# Altium footprint library DDS1.PcbLib: 136 footprints (part 2 of 9)
Each footprint in its own frame and in the unit in brackets; x right, y up, seen from the top. Pads: shape width x height; smd on the part's side, far side on the other; paste and mask are expansions set on the pad; w line width, h text height; cw(c..) or ccw(c..) is an arc to the next point about the centre after c.
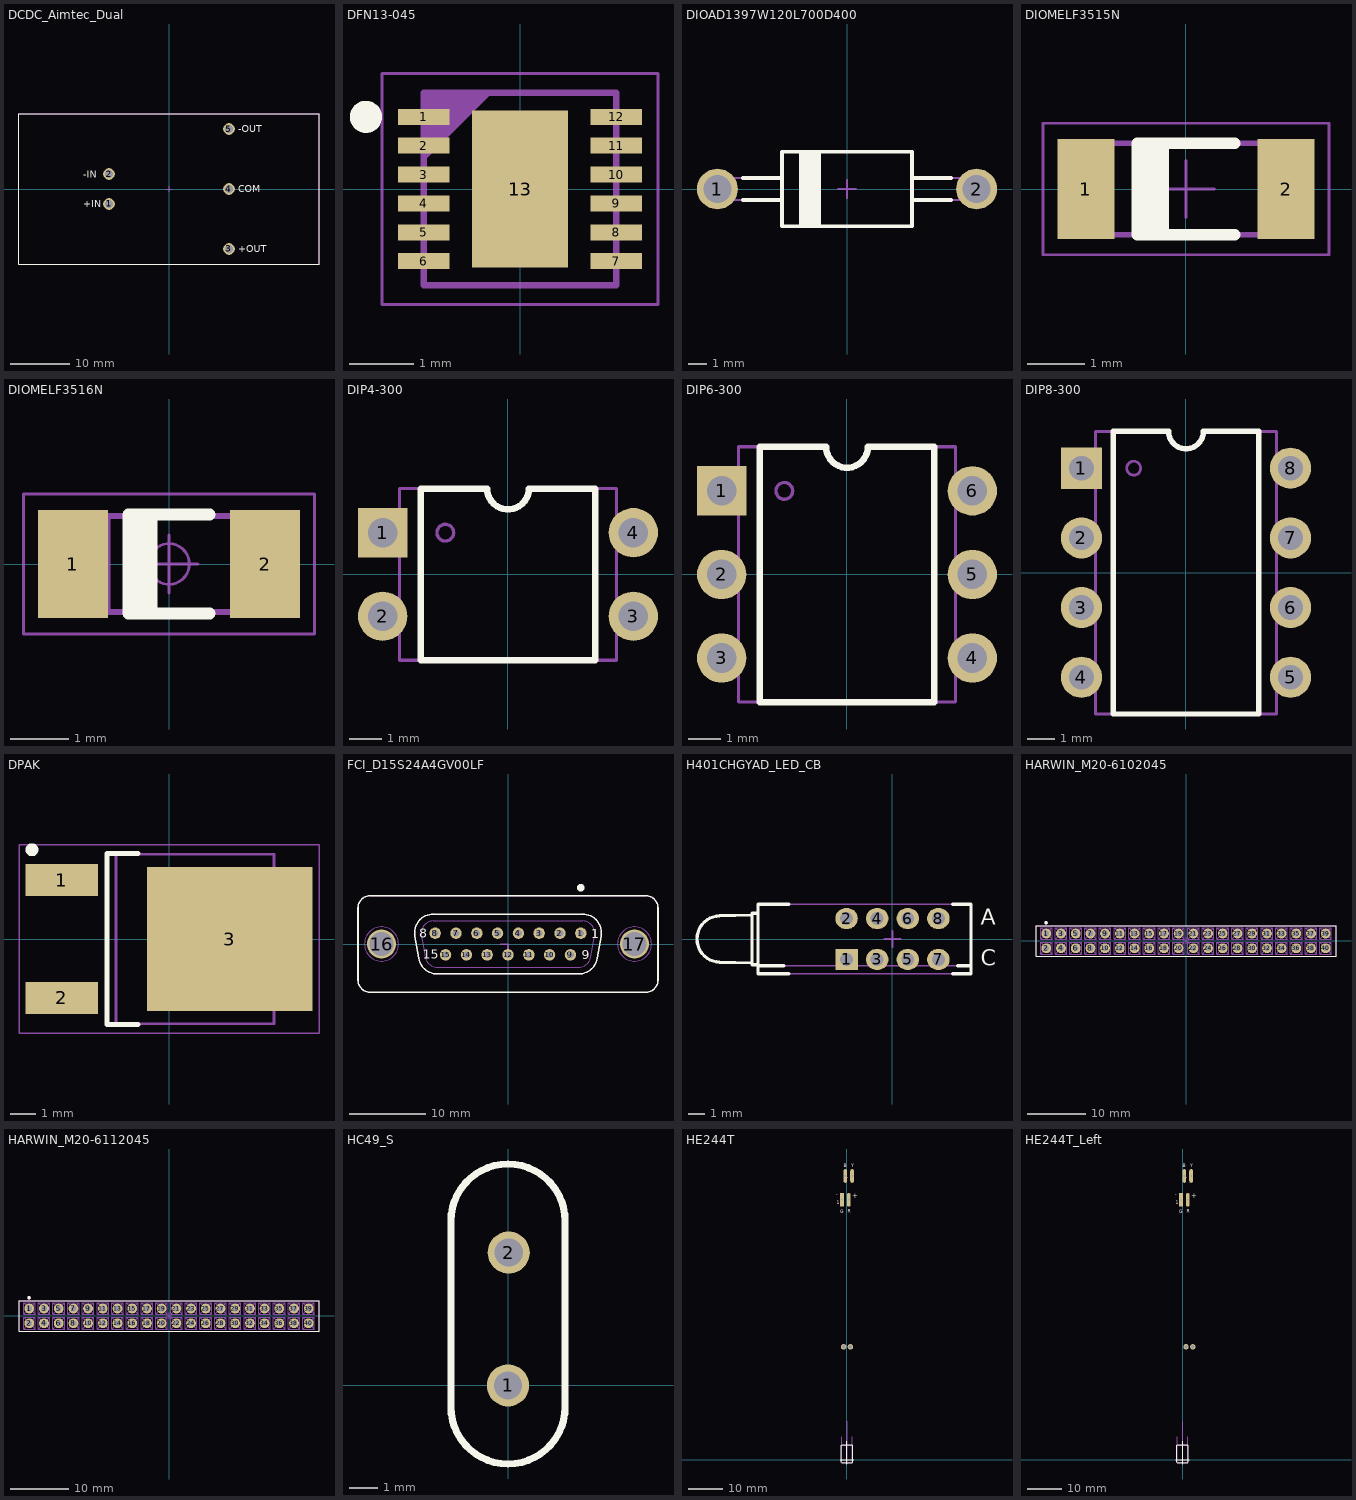
[diagram p1: the footprints below, top view; thin cyan lines are the x and y axes]

## DCDC_Aimtec_Dual [mm] "AEE 15W Series , Dual Output DCDC Converter, Body 50.8x25.4mm, Height 11.3mm"
height 11.3
pads (5):
  round 2 hole 1.3: 1(-10.16,-2.54) 2(-10.16,2.54) 3(10.16,-10.16) 4(10.16,0) 5(10.16,10.16)
Top Overlay:
  lines w0.2: -25.4,-12.7 -25.4,12.7 25.4,12.7 25.4,-12.7 -25.4,-12.7
  text "-IN" at -14.55,1.9 h1.2
  text "-OUT" at 11.71,9.645 h1.2
  text "+OUT" at 11.71,-10.675 h1.2
  text "+IN" at -14.55,-3.1 h1.2
  text "COM" at 11.71,-0.515 h1.2
Mechanical 8:
  lines w0.1: -10.66,-2.54 -10.16,-2.54 ; -10.66,2.54 -10.16,2.54 ; -10.16,-3.04 -10.16,-2.54 ; -10.16,-2.04 -10.16,-2.54 ; -10.16,2.04 -10.16,2.54 ; -10.16,3.04 -10.16,2.54 ; -9.66,-2.54 -10.16,-2.54 ; -9.66,2.54 -10.16,2.54 ; -0.5,0 0,0 ; 0,-0.5 0,0 ; 0,0.5 0,0 ; 0.5,0 0,0 ; 9.66,-10.16 10.16,-10.16 ; 9.66,0 10.16,0 ; 9.66,10.16 10.16,10.16 ; 10.16,-10.66 10.16,-10.16 ; 10.16,-9.66 10.16,-10.16 ; 10.16,-0.5 10.16,0 ; 10.16,0.5 10.16,0 ; 10.16,9.66 10.16,10.16 ; 10.16,10.66 10.16,10.16 ; 10.66,-10.16 10.16,-10.16 ; 10.66,0 10.16,0 ; 10.66,10.16 10.16,10.16
Mechanical 14:
  lines w0.1: -25.4,-12.7 -25.4,12.7 25.4,12.7 25.4,-12.7 -25.4,-12.7
  text "+OUT" at 11.71,-10.675 h1.2
  text "-OUT" at 11.71,9.645 h1.2
  text "+IN" at -14.55,-3.1 h1.2
  text "-IN" at -14.55,1.9 h1.2
  text "COM" at 11.71,-0.515 h1.2
3D body "DCDC_EMERSON_AEE_Dual.stp": height 11.3, standoff -3.8, extent -25.4,-12.7 25.4,12.7

## DFN13-045 [mm] "SON, 0.45mm Pitch; 12 Pin, 3.00mm W X 3.00mm L X 0.80mm H Body (w/Thermal tab 1.75 x 2.48mm), IPC Medium Density"
height 0.8
pads (13):
  rect 0.8x0.25 smd: 1(-1.5,1.125) 2(-1.5,0.675) 3(-1.5,0.225) 4(-1.5,-0.225) 5(-1.5,-0.675) 6(-1.5,-1.125) 7(1.5,-1.125) 8(1.5,-0.675) 9(1.5,-0.225) 10(1.5,0.225) 11(1.5,0.675) 12(1.5,1.125)
  rect 1.5x2.45 smd paste-0.37: 13(0,0)
Top Overlay:
  circle w0.25: c-2.4,1.125 r0.125
Top Solder:
  circle w0.05: c0,0 r0.35
  lines w0.05: -0.5,0 0.5,0 ; 0,-0.5 0,0.5
Mechanical 14:
  lines w0.1: -1.5,0.5 -0.5,1.5 ; -1.5,0.6 -0.6,1.5 ; -1.5,0.7 -0.7,1.5 ; -1.5,0.8 -0.8,1.5 ; -1.5,0.9 -0.9,1.5 ; -1.5,1 -1,1.5 ; -1.5,1.1 -1.1,1.5 ; -1.5,1.2 -1.2,1.5 ; -1.5,1.3 -1.3,1.5 ; -1.5,1.4 -1.4,1.5 ; -1.5,-1.5 1.5,-1.5 1.5,1.5 -1.5,1.5 -1.5,-1.5
Mechanical 15:
  lines w0.05: -2.15,-1.8 -2.15,1.8 2.15,1.8 2.15,-1.8 -2.15,-1.8
3D body "SON45P300X300X80-13N-R175X248.stp": height 0.8, standoff 0, extent -1.5,-1.5 1.5,1.5

## DIOAD1397W120L700D400 [mm] "Diode, Axial; Lead Spacing 13.97mm, Lead Dia. 1.20mm, Body Length 7mm, Body Dia. 4mm"
height 4
pads (2):
  round 2.2 hole 1.5: 1(-6.985,0) 2(6.985,0)
Top Overlay:
  lines w0.2: -5.608,-0.595 -3.5,-0.595 ; -5.608,0.595 -3.5,0.595 ; -2.5,-2 -2.5,2 ; -2.389,-2 -2.389,2 ; -2.262,-2 -2.262,2 ; -2.135,-2 -2.135,2 ; -2.008,-2 -2.008,2 ; -1.881,-2 -1.881,2 ; -1.754,-2 -1.754,2 ; -1.627,-2 -1.627,2 ; -1.5,-2 -1.5,2 ; 3.5,-0.595 5.608,-0.595 ; 3.5,0.595 5.608,0.595 ; -3.5,-2 -3.5,2 3.5,2 3.5,-2 -3.5,-2
Mechanical 8:
  lines w0.1: -7.485,0 -6.985,0 ; -6.985,-0.5 -6.985,0 ; -6.985,0.5 -6.985,0 ; -6.485,0 -6.985,0 ; -0.5,0 0,0 ; 0,-0.5 0,0 ; 0,0.5 0,0 ; 0.5,0 0,0 ; 6.485,0 6.985,0 ; 6.985,-0.5 6.985,0 ; 6.985,0.5 6.985,0 ; 7.485,0 6.985,0
Mechanical 14:
  lines w0.1: -3.5,-0.595 -6.985,-0.595 cw(c-6.985,0) -6.985,0.595 -3.5,0.595 ; -2.5,-2 -2.5,2 ; -1.5,-2 -1.5,2 ; 3.5,-0.595 6.985,-0.595 ccw(c6.985,0) 6.985,0.595 3.5,0.595 ; -3.5,-2 -3.5,2 3.5,2 3.5,-2 -3.5,-2
3D body "NTE_NTE506.stp": height 4, standoff -3.6, extent -7.58,-2 7.58,2

## DIOMELF3515N [mm] "SOD80C, MELF Diode, 2-Leads, Body 3.5x1.5mm, IPC Medium Density"
height 1.6
pads (2):
  rect 1x1.75 smd: 1(-1.75,0) 2(1.75,0)
Top Overlay:
  rectangle: -0.85,-0.8 -0.3,0.8
  lines w0.2: 0.85,-0.8 -0.85,-0.8 -0.85,0.8 0.85,0.8
Mechanical 14:
  lines w0.1: -1.802,-0.8 -1.802,0.8 ; -1.727,-0.8 -1.727,0.8 ; -1.652,-0.8 -1.652,0.8 ; -1.577,-0.8 -1.577,0.8 ; -1.502,-0.8 -1.502,0.8 ; -1.427,-0.8 -1.427,0.8 ; -1.352,-0.8 -1.352,0.8 ; -1.85,-0.8 -1.85,0.8 1.85,0.8 1.85,-0.8 -1.85,-0.8
Mechanical 15:
  lines w0.05: -0.5,0 0.5,0 ; 0,-0.5 0,0.5 ; -2.5,-1.15 -2.5,1.15 2.5,1.15 2.5,-1.15 -2.5,-1.15
3D body "DIOMELF3515N.stp": height 1.6, standoff 0, extent -1.85,-0.8 1.85,0.8

## DIOMELF3516N [mm] "SOD80, Diode, MELF; 3.50mm L X 1.65mm Dia, IPC Medium Density"
height 1.6
pads (2):
  rect 1.2x1.85 smd: 1(-1.65,0) 2(1.65,0)
Top Overlay:
  lines w0.2: -0.5,-0.85 -0.5,0.85 ; -0.3,-0.85 -0.3,0.85 ; 0.7,-0.85 -0.7,-0.85 -0.7,0.85 0.7,0.85
Mechanical 14:
  lines w0.1: -1.65,-0.825 -1.65,0.825 ; -1.55,-0.825 -1.55,0.825 ; -1.45,-0.825 -1.45,0.825 ; -1.35,-0.825 -1.35,0.825 ; -1.25,-0.825 -1.25,0.825 ; -1.15,-0.825 -1.15,0.825 ; -1.05,-0.825 -1.05,0.825 ; -1.75,-0.825 1.75,-0.825 1.75,0.825 -1.75,0.825 ; -1.75,-0.825 -1.75,0.825 ; -1.75,-0.825 -1.75,0.825
Mechanical 15:
  circle w0.05: c0,0 r0.35
  lines w0.05: -0.5,0 0.5,0 ; 0,-0.5 0,0.5 ; -2.5,-1.2 2.5,-1.2 2.5,1.2 -2.5,1.2 -2.5,-1.2
Mechanical 21:
  lines w0.001: -1.85,-0.85 1.85,-0.85 1.85,0.85 -1.85,0.85 -1.85,-0.85
3D body "DIOMELF3516N.stp": height 1.7, standoff 0, extent -1.85,-0.8 1.65,0.9

## DIP4-300 [mm] "DIP 4 Leads, Row Spacing 7.62 mm; Pitch 2.54 mm"
height 5.08
pads (4):
  rect 1.5x1.5 hole 0.9: 1(-3.81,1.27)
  round 1.5 hole 0.9: 2(-3.81,-1.27) 3(3.81,-1.27) 4(3.81,1.27)
Top Overlay:
  lines w0.2: -0.635,2.61 ccw(c0,2.61) 0.635,2.61 ; -0.635,2.61 ccw(c0,2.61) 0.635,2.61 ; -0.635,2.61 -2.65,2.61 -2.65,-2.61 2.65,-2.61 2.65,2.61 0.635,2.61
Mechanical 14:
  circle w0.1: c-1.905,1.27 r0.254
  lines w0.1: -3.3,-2.61 3.3,-2.61 3.3,2.61 0.635,2.61 cw(c0,2.61) -0.635,2.61 -3.3,2.61 -3.3,-2.61
3D body "DIP4-300.stp": height 5.33, standoff -3.3, extent -3.935,-2.54 3.935,2.54

## DIP6-300 [mm] "DIP 6 Leads, Row Spacing 7.62 mm; Pitch 2.54 mm"
height 5.08
pads (6):
  rect 1.5x1.5 hole 0.9: 1(-3.81,2.54)
  round 1.5 hole 0.9: 2(-3.81,0) 3(-3.81,-2.54) 4(3.81,-2.54) 5(3.81,0) 6(3.81,2.54)
Top Overlay:
  lines w0.2: -0.635,3.88 ccw(c0,3.88) 0.635,3.88 ; -0.635,3.88 ccw(c0,3.88) 0.635,3.88 ; -0.635,3.88 -2.65,3.88 -2.65,-3.88 2.65,-3.88 2.65,3.88 0.635,3.88
Mechanical 14:
  circle w0.1: c-1.905,2.54 r0.254
  lines w0.1: -3.3,-3.88 3.3,-3.88 3.3,3.88 0.635,3.88 cw(c0,3.88) -0.635,3.88 -3.3,3.88 -3.3,-3.88
3D body "DIP6-300.stp": height 5.33, standoff -3.3, extent -3.935,-3.81 3.935,3.81

## DIP8-300 [mm]
pads (8):
  rect 1.5x1.5 hole 0.9: 1(-3.81,3.81)
  round 1.5 hole 0.9: 2(-3.81,1.27) 3(-3.81,-1.27) 4(-3.81,-3.81) 5(3.81,-3.81) 6(3.81,-1.27) 7(3.81,1.27) 8(3.81,3.81)
Top Overlay:
  lines w0.2: -0.635,5.15 ccw(c0,5.15) 0.635,5.15 ; -0.635,5.15 ccw(c0,5.15) 0.635,5.15 ; -0.635,5.15 -2.65,5.15 -2.65,-5.15 2.65,-5.15 2.65,5.15 0.635,5.15
Mechanical 14:
  circle w0.1: c-1.905,3.81 r0.254
  lines w0.1: -3.3,-5.15 3.3,-5.15 3.3,5.15 0.635,5.15 cw(c0,5.15) -0.635,5.15 -3.3,5.15 -3.3,-5.15
3D body "DIP8-300.stp": height 5.33, standoff -3.3, extent -3.935,-5.08 3.935,5.08

## DPAK [mm] "TO-252AA DPAK TO, 2.28mm pitch; 2 pin,9.90mm L X 6.56mm W X 2.38mm H body, IPC Medium Density"
height 2.38
pads (3):
  rect 2.8x1.25 smd: 1(-4.15,2.28) 2(-4.15,-2.28)
  rect 6.4x5.55 smd: 3(2.35,0)
Top Overlay:
  circle w0.25: c-5.3,3.45 r0.125
  lines w0.2: -1.2,-3.3 -2.4,-3.3 -2.4,3.3 -1.2,3.3
Top Paste:
  region: 2.71,0.36 4.81,0.36 4.81,2.04 2.71,2.04
  region: -0.11,0.36 1.99,0.36 1.99,2.04 -0.11,2.04
  region: 2.71,-2.04 4.81,-2.04 4.81,-0.36 2.71,-0.36
  region: -0.11,-2.04 1.99,-2.04 1.99,-0.36 -0.11,-0.36
Mechanical 14:
  lines w0.1: 4.06,-2.668 4.354,-2.668 4.95,-2.006 4.95,2.006 4.354,2.668 4.06,2.668 ; -2.05,-3.282 -2.05,3.282 4.06,3.282 4.06,-3.282 -2.05,-3.282
Mechanical 15:
  circle w0.05: c0,0 r0.35
  lines w0.05: -0.5,0 0.5,0 ; 0,-0.5 0,0.5 ; -5.8,-3.65 -5.8,3.65 5.8,3.65 5.8,-3.65 -5.8,-3.65
3D body "TO228P990X238-3N-R640X555.stp": height 2.28, standoff 0, extent -4.992,-3.27 4.946,3.27

## FCI_D15S24A4GV00LF [mm] "Straight D-SUB 15 Female Contacts for PCB  with Harpoons and Female Screwlock (UNC4-40) and Elec. Continuity"
height 12.39
pads (17):
  round 1.5 hole 0.9: 1(9.59,1.42) 2(6.85,1.42) 3(4.11,1.42) 4(1.37,1.42) 5(-1.37,1.42) 6(-4.11,1.42) 7(-6.85,1.42) 8(-9.59,1.42) 9(8.22,-1.42) 10(5.48,-1.42) 11(2.74,-1.42) 12(0,-1.42) 13(-2.74,-1.42) 14(-5.48,-1.42) 15(-8.22,-1.42)
  round 3.8 hole 3.2: 16(-16.66,0) 17(16.66,0)
Top Overlay:
  circle w0.5: c9.59,7.42 r0.25
  lines w0.2: -19.76,-4.75 ccw(c-18.16,-4.75) -18.16,-6.35 18.16,-6.35 ccw(c18.16,-4.75) 19.76,-4.75 19.76,4.75 ccw(c18.16,4.75) 18.16,6.35 -18.16,6.35 ccw(c-18.16,4.75) -19.76,4.75 -19.76,-4.75 ; -12.277,1.011 cw(c-9.815,1.445) -9.815,3.945 9.815,3.945 cw(c9.815,1.445) 12.277,1.011 11.767,-1.879 cw(c9.305,-1.445) 9.305,-3.945 -9.305,-3.945 cw(c-9.305,-1.445) -11.767,-1.879 -12.277,1.011
  text "9" at 9.695,-1.995 h1.2
  text "1" at 10.965,0.77 h1.2
  text "8" at -11.69,0.82 h1.2
  text "15" at -11.22,-1.945 h1.2
Mechanical 8:
  lines w0.2: -1,0 0,0 0,-1
Mechanical 14:
  circle w0.1: c-16.66,0 r2.25
  circle w0.1: c16.66,0 r2.25
  lines w0.1: -19.76,-4.75 ccw(c-18.16,-4.75) -18.16,-6.35 18.16,-6.35 ccw(c18.16,-4.75) 19.76,-4.75 19.76,4.75 ccw(c18.16,4.75) 18.16,6.35 -18.16,6.35 ccw(c-18.16,4.75) -19.76,4.75 -19.76,-4.75 ; -12.277,1.011 cw(c-9.815,1.445) -9.815,3.945 9.815,3.945 cw(c9.815,1.445) 12.277,1.011 11.767,-1.879 cw(c9.305,-1.445) 9.305,-3.945 -9.305,-3.945 cw(c-9.305,-1.445) -11.767,-1.879 -12.277,1.011 ; -11.401,1.167 cw(c-9.825,1.445) -9.825,3.045 9.825,3.045 cw(c9.825,1.445) 11.401,1.167 10.891,-1.723 cw(c9.315,-1.445) 9.315,-3.045 -9.315,-3.045 cw(c-9.315,-1.445) -10.891,-1.723 -11.401,1.167
  text "15" at -14.17,-2.045 h1.2
  text "8" at -13.715,0.945 h1.2
  text "1" at 12.99,1.095 h1.2
  text "9" at 12.845,-2.07 h1.2
  text "15 D-Sub Female" at -6.278,4.522 h1.2
3D body "FCI_D15S24A4GV00LF.stp": height 12.1, standoff -3, extent -19.66,-6.275 19.66,6.275

## H401CHGYAD_LED_CB [mm] "Quad-Level 4x3mm Bi-Color Red/Green, LED CBI Circuit Board Indicator"
height 20.32
pads (8):
  rect 1.4x1.3 hole 0.8: 1(-2.857,-1.27)
  oval 1.4x1.3 hole 0.8: 2(-2.857,1.27) 3(-0.952,-1.27) 4(-0.952,1.27) 5(0.953,-1.27) 6(0.953,1.27) 7(2.858,-1.27) 8(2.858,1.27)
Top Overlay:
  lines w0.2: -8.738,-1.499 -10.756,-1.441 cw(c-10.72,0) -10.756,1.441 -8.738,1.499 ; -8.357,-1.659 -6.751,-1.659 ; -8.357,-1.6 -8.738,-1.6 -8.738,1.6 -8.357,1.6 ; -6.442,-2.159 -8.357,-2.159 ; -6.442,2.159 -8.357,2.159 ; 3.736,-2.159 4.89,-2.159 4.89,2.159 3.736,2.159 ; 4.045,-1.659 4.89,-1.659 ; -8.357,-2.159 -8.357,2.159 ; -8.357,-2.159 -8.357,2.159
  text "A" at 5.502,0.889 h1
  text "C" at 5.502,-1.651 h1
Mechanical 8:
  lines w0.1: -3.357,-1.27 -2.857,-1.27 ; -3.357,1.27 -2.857,1.27 ; -2.857,-1.77 -2.857,-1.27 ; -2.857,-0.77 -2.857,-1.27 ; -2.857,0.77 -2.857,1.27 ; -2.857,1.77 -2.857,1.27 ; -2.357,-1.27 -2.857,-1.27 ; -2.357,1.27 -2.857,1.27 ; -1.452,-1.27 -0.952,-1.27 ; -1.452,1.27 -0.952,1.27 ; -0.952,-1.77 -0.952,-1.27 ; -0.952,-0.77 -0.952,-1.27 ; -0.952,0.77 -0.952,1.27 ; -0.952,1.77 -0.952,1.27 ; -0.5,0 0,0 ; -0.452,-1.27 -0.952,-1.27 ; -0.452,1.27 -0.952,1.27 ; 0,-0.5 0,0 ; 0,0.5 0,0 ; 0.453,-1.27 0.953,-1.27 ; 0.453,1.27 0.953,1.27 ; 0.5,0 0,0 ; 0.953,-1.77 0.953,-1.27 ; 0.953,-0.77 0.953,-1.27 ; 0.953,0.77 0.953,1.27 ; 0.953,1.77 0.953,1.27 ; 1.453,-1.27 0.953,-1.27 ; 1.453,1.27 0.953,1.27 ; 2.358,-1.27 2.858,-1.27 ; 2.358,1.27 2.858,1.27 ; 2.858,-1.77 2.858,-1.27 ; 2.858,-0.77 2.858,-1.27 ; 2.858,0.77 2.858,1.27 ; 2.858,1.77 2.858,1.27 ; 3.358,-1.27 2.858,-1.27 ; 3.358,1.27 2.858,1.27
Mechanical 14:
  lines w0.1: -8.738,-1.499 -10.756,-1.441 cw(c-10.72,0) -10.756,1.441 -8.738,1.499 ; -8.357,-1.659 4.89,-1.659 ; -8.357,-1.6 -8.738,-1.6 -8.738,1.6 -8.357,1.6 ; -8.357,-2.159 -8.357,2.159 4.89,2.159 4.89,-2.159 -8.357,-2.159
3D body "LED_DIALIGHT_568-0701-111F.stp": height 20.32, standoff -3.68, extent -12.161,-2.159 2.184,2.159

## HARWIN_M20-6102045 [mm] "40 Ways, Dual Row, 2.54mm Pitch, PC/104 Stackthrough Connector"
height 11.05
pads (40):
  round 1.7 hole 1: 1(-24.13,1.27) 2(-24.13,-1.27) 3(-21.59,1.27) 4(-21.59,-1.27) 5(-19.05,1.27) 6(-19.05,-1.27) 7(-16.51,1.27) 8(-16.51,-1.27) 9(-13.97,1.27) 10(-13.97,-1.27) 11(-11.43,1.27) 12(-11.43,-1.27) 13(-8.89,1.27) 14(-8.89,-1.27) 15(-6.35,1.27) 16(-6.35,-1.27) 17(-3.81,1.27) 18(-3.81,-1.27) 19(-1.27,1.27) 20(-1.27,-1.27) 21(1.27,1.27) 22(1.27,-1.27) 23(3.81,1.27) 24(3.81,-1.27) 25(6.35,1.27) 26(6.35,-1.27) 27(8.89,1.27) 28(8.89,-1.27) 29(11.43,1.27) 30(11.43,-1.27) 31(13.97,1.27) 32(13.97,-1.27) 33(16.51,1.27) 34(16.51,-1.27) 35(19.05,1.27) 36(19.05,-1.27) 37(21.59,1.27) 38(21.59,-1.27) 39(24.13,1.27) 40(24.13,-1.27)
Top Overlay:
  circle w0.3: c-24.175,3.125 r0.15
  lines w0.2: -25.91,-2.625 -25.91,2.625 25.91,2.625 25.91,-2.625 -25.91,-2.625
Mechanical 8:
  drawing of 164 lines, arcs and shapes, not listed
Mechanical 14:
  drawing of 485 lines, arcs and shapes, not listed
3D body "HARWIN_M20-6102045.stp": height 11.05, standoff -12.2, extent -25.91,-2.625 25.91,2.625

## HARWIN_M20-6112045 [mm] "40 Ways, Dual Row, 2.54mm Pitch, PC/104 Non-Stackthrough Connector"
height 11.05
pads (40):
  round 1.7 hole 1: 1(-24.13,1.27) 2(-24.13,-1.27) 3(-21.59,1.27) 4(-21.59,-1.27) 5(-19.05,1.27) 6(-19.05,-1.27) 7(-16.51,1.27) 8(-16.51,-1.27) 9(-13.97,1.27) 10(-13.97,-1.27) 11(-11.43,1.27) 12(-11.43,-1.27) 13(-8.89,1.27) 14(-8.89,-1.27) 15(-6.35,1.27) 16(-6.35,-1.27) 17(-3.81,1.27) 18(-3.81,-1.27) 19(-1.27,1.27) 20(-1.27,-1.27) 21(1.27,1.27) 22(1.27,-1.27) 23(3.81,1.27) 24(3.81,-1.27) 25(6.35,1.27) 26(6.35,-1.27) 27(8.89,1.27) 28(8.89,-1.27) 29(11.43,1.27) 30(11.43,-1.27) 31(13.97,1.27) 32(13.97,-1.27) 33(16.51,1.27) 34(16.51,-1.27) 35(19.05,1.27) 36(19.05,-1.27) 37(21.59,1.27) 38(21.59,-1.27) 39(24.13,1.27) 40(24.13,-1.27)
Top Overlay:
  circle w0.3: c-24.175,3.125 r0.15
  lines w0.2: -25.91,-2.625 -25.91,2.625 25.91,2.625 25.91,-2.625 -25.91,-2.625
Mechanical 8:
  drawing of 164 lines, arcs and shapes, not listed
Mechanical 14:
  drawing of 485 lines, arcs and shapes, not listed
3D body "HARWIN_M20-6112045.stp": height 11.05, standoff -2.29, extent -25.91,-2.625 25.91,2.625

## HC49_S [mm]
pads (2):
  round 1.5 hole 1: 1(0,0) 2(0.025,4.724)
Top Overlay:
  lines w0.254: -2.032,-0.762 ccw(c0,-0.762) 2.032,-0.762 2.032,5.842 ccw(c0,5.842) -2.032,5.842 -2.032,-0.762
3D body "XTAL_CITIZEN_HC-49-U-S.stp": height 3.5, standoff -3.6, extent -2.355,-3.45 2.305,8.05

## HE244T [mm] "he244t"
height 5.08
pads (6):
  round 1.6 hole 1: 0(-1,33) 0(1,33)
  rect 1.1x4 hole 0.5: 1(-1.5,76)
  oval 1.1x4 hole 0.5: 2(0.5,76) 3(-0.5,83) 4(1.5,83)
Top Overlay:
  lines w0.2: -2,0 2,0 ; -1.7,-0.8 -1.7,4.2 ; -1.5,-1 1.5,-1 ; -1.5,4.4 1.5,4.4 ; 0,-1.3 0,5.3 ; 1.7,-0.8 1.7,4.2
  text "1" at -3,74.7 h1
  text "R" at 0.2,72.2 h1
  text "B" at -0.9,85.5 h1
  text "Y" at 1.3,85.5 h1
  text "G" at -2,72.1 h1
  text "-" at -3.075,76.825 h1.52
  text "+" at 1.5,76.5 h1.52
Top Solder:
  rectangle: -1.5,-0.8 1.5,4.2
Mechanical 8:
  lines w0.1: -0.73,82.62 0.27,82.62
Mechanical 18:
  lines w0.05: -1.5,4.2 0,4.2 1.5,4.2 ; -1.5,6.645 -1.5,-0.8 0,-0.8 1.5,-0.8 1.5,6.62 ; 0,-1.1 0,11.2
3D body: height 0.8, standoff 0, extent -1.5,-0.8 1.5,4.2

## HE244T_Left [mm] "he244t"
height 5.08
pads (6):
  round 1.6 hole 1: 0(1,33) 0(3,33)
  rect 1.1x4 hole 0.3: 1(-0.5,76)
  oval 1.1x4 hole 0.5: 2(1.5,76) 3(0.5,83) 4(2.5,83)
Top Overlay:
  lines w0.2: -2,0 2,0 ; -1.7,-0.8 -1.7,4.2 ; -1.5,-1 1.5,-1 ; -1.5,4.4 1.5,4.4 ; 0,-1.3 0,5.3 ; 1.7,-0.8 1.7,4.2
  text "+" at 2.5,76.5 h1.52
  text "-" at -2.075,76.825 h1.52
  text "G" at -1,72.1 h1
  text "Y" at 2.3,85.5 h1
  text "B" at 0.1,85.5 h1
  text "R" at 1.2,72.2 h1
  text "1" at -2,74.7 h1
Top Solder:
  rectangle: -1.5,-0.8 1.5,4.2
Mechanical 8:
  lines w0.1: 0.27,82.62 1.27,82.62
Mechanical 18:
  lines w0.05: -1.5,4.2 0,4.2 1.5,4.2 ; -1.5,6.645 -1.5,-0.8 0,-0.8 1.5,-0.8 1.5,6.62 ; 0,-1.1 0,11.2
3D body: height 0.8, standoff 0, extent -1.5,-0.8 1.5,4.2